# Altium schematic symbol library SamacSys.SchLib: 44 symbols
Pins are listed as number, name and electrical type; pins without a type are passive.

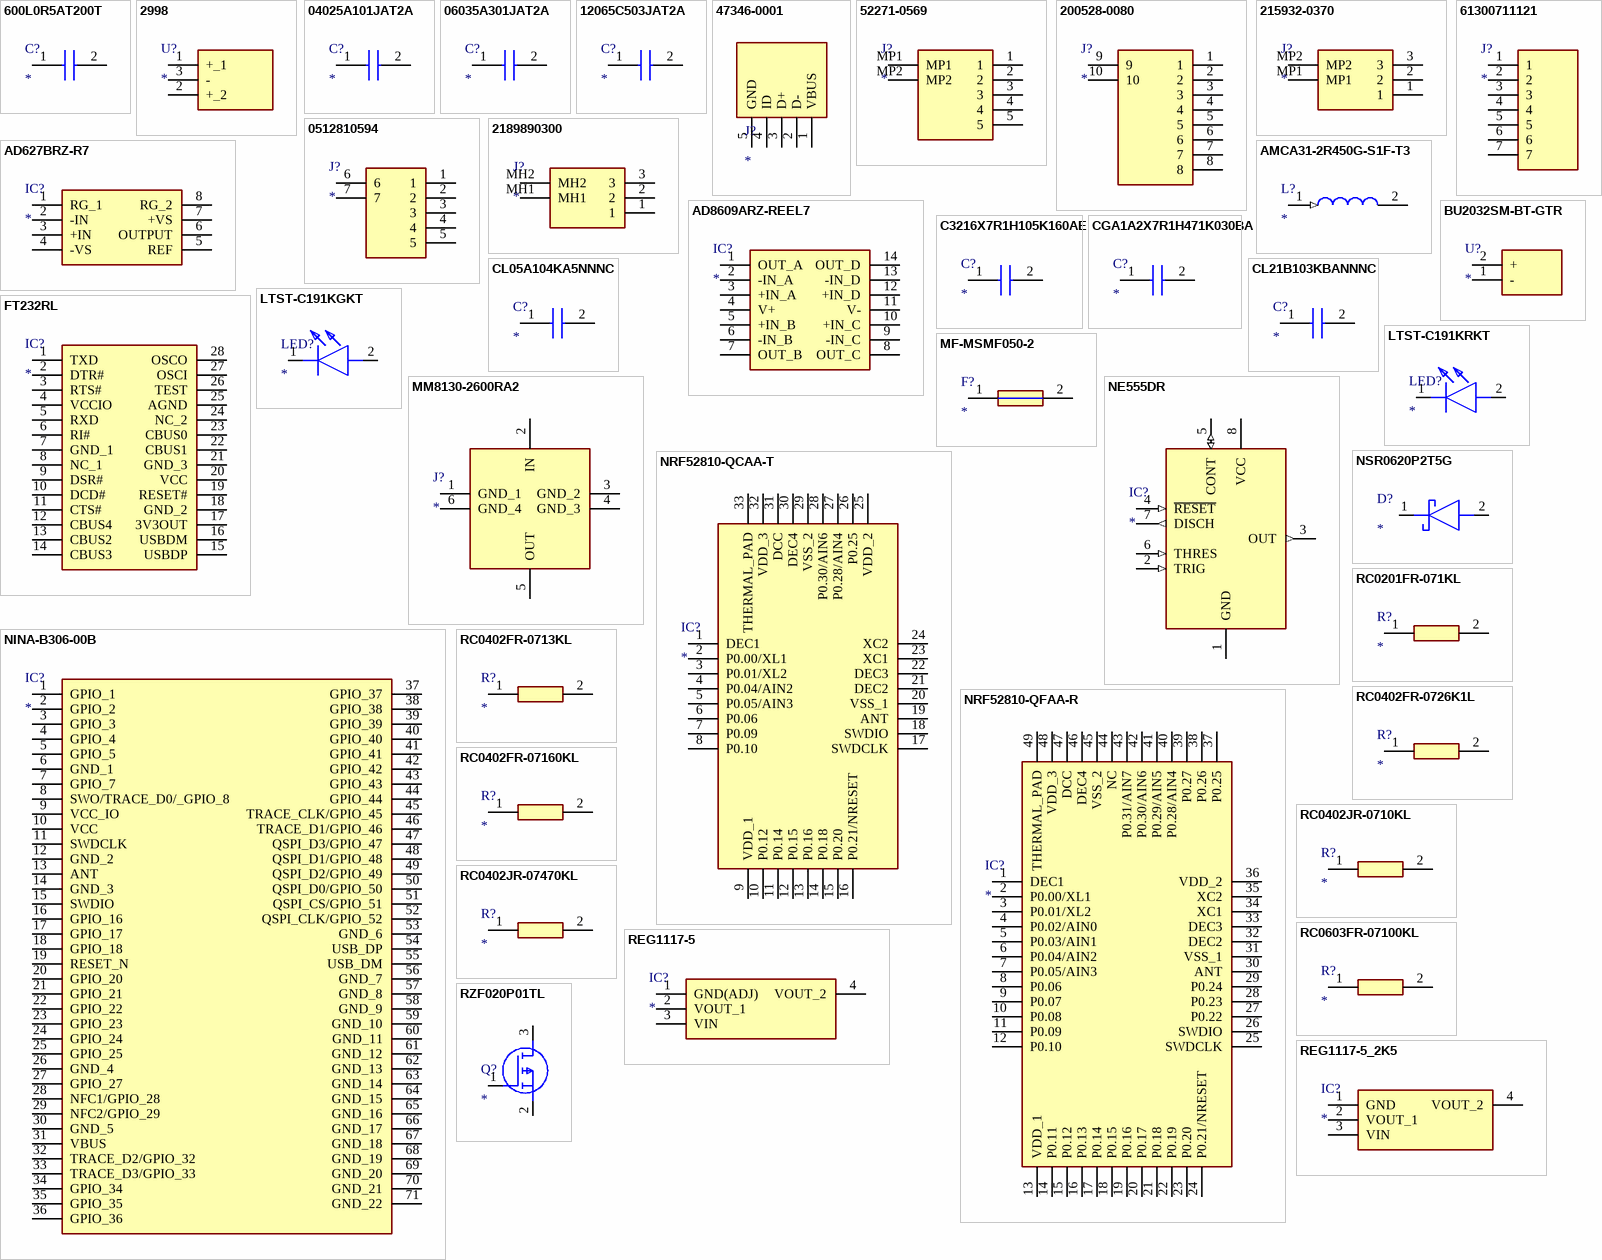
[diagram p0: symbols 600L0R5AT200T to RZF020P01TL]

## 600L0R5AT200T
designator C?
Capacitor; Manufacturer_Name: American Technical Ceramics (ATC); Manufacturer_Part_Number: 600L0R5AT200T; Datasheet Link: https://datasheets.kyocera-avx.com/600L.pdf; Height: 0.6mm
footprint CAPC1005X60N
pins: 1, 2

## 2998
designator U?
Undefined or Miscellaneous; Manufacturer_Name: Keystone Electronics; Manufacturer_Part_Number: 2998; Datasheet Link: https://www.keyelco.com/product-pdf.cfm?p=763; Height: 3.18mm; Mouser Part Number: 534-2998; Mouser Price/Stock: https://www.mouser.co.uk/ProductDetail/Keystone-Electronics/2998?qs=xAjc%252BIZFyb5TvOJRv3Vy6w%3D%3D; Arrow Part Number: 2998; Arrow Price/Stock: https://www.arrow.com/en/products/2998/keystone-electronics
footprint 2998
pins: 1 +_1, 2 +_2, 3 -

## 04025A101JAT2A
designator C?
Capacitor; Manufacturer_Name: AVX; Manufacturer_Part_Number: 04025A101JAT2A; Datasheet Link: http://www.mouser.com/catalog/supplier/library/pdf/AVXSurfaceMountCeramic.pdf; Height: 0.56mm; Mouser Part Number: 581-04025A101J; Mouser Price/Stock: https://www.mouser.co.uk/ProductDetail/AVX/04025A101JAT2A?qs=MeUoP7zHHrVUMjmeFYUrCw%3D%3D; Arrow Part Number: 04025A101JAT2A; Arrow Price/Stock: https://www.arrow.com/en/products/04025a101jat2a/avx
footprint CAPC1005X56N
pins: 1, 2

## 06035A301JAT2A
designator C?
Capacitor; Manufacturer_Name: AVX; Manufacturer_Part_Number: 06035A301JAT2A; Datasheet Link: https://componentsearchengine.com/Datasheets/1/06031A100FAT2A.pdf; Height: 0.9mm; Mouser Part Number: 581-06035A301J; Mouser Price/Stock: https://www.mouser.com/Search/Refine.aspx?Keyword=581-06035A301J; Arrow Part Number: 06035A301JAT2A; Arrow Price/Stock: https://www.arrow.com/en/products/06035a301jat2a/avx
footprint CAPC1608X90N
pins: 1, 2

## 12065C503JAT2A
designator C?
Capacitor; Manufacturer_Name: AVX; Manufacturer_Part_Number: 12065C503JAT2A; Mouser Part Number: 581-12065C503JAT2A; Mouser Price/Stock: https://www.mouser.co.uk/ProductDetail/AVX/12065C503JAT2A?qs=KpoduxKdAk0Ka0q%2FwvgHUg%3D%3D; Arrow Part Number: 12065C503JAT2A; Arrow Price/Stock: https://www.arrow.com/en/products/12065c503jat2a/avx
footprint CAPC3216X94N
pins: 1 C1, 2 C2

## 47346-0001
designator J?
Connector; Manufacturer_Name: Molex; Manufacturer_Part_Number: 47346-0001; Datasheet Link: http://www.molex.com/pdm_docs/sd/473460001_sd.pdf; Mouser Part Number: 538-47346-0001; Mouser Price/Stock: https://www.mouser.co.uk/ProductDetail/Molex/47346-0001?qs=c2CV6XM0DweJBWaSeyWeCw%3D%3D
footprint 47346-0001
pins: 1 VBUS, 2 D-, 3 D+, 4 ID, 5 GND

## 52271-0569
designator J?
Connector; Manufacturer_Name: Molex; Manufacturer_Part_Number: 52271-0569; Datasheet Link: https://www.molex.com/pdm_docs/sd/522710569_sd.pdf; Height: 4.65mm; Mouser Part Number: 538-52271-0569; Mouser Price/Stock: https://www.mouser.co.uk/ProductDetail/Molex/52271-0569?qs=vFIbPToLYxKjfGPEzV6m3w%3D%3D
footprint 522710569
pins: 1, 2, 3, 4, 5, MP1, MP2

## 200528-0080
designator J?
Connector; Manufacturer_Name: Molex; Manufacturer_Part_Number: 200528-0080; Datasheet Link: https://www.molex.com/webdocs/datasheets/pdf/en-us/2005280080_FFC_FPC_CONNECTORS.pdf; Height: 2mm; Mouser Part Number: 538-200528-0080; Mouser Price/Stock: https://www.mouser.co.uk/ProductDetail/Molex/200528-0080?qs=IvjI65BR3TV4eofCj4RUDA%3D%3D
footprint 2005290080
pins: 1, 2, 3, 4, 5, 6, 7, 8, 9, 10

## 215932-0370
designator J?
Connector; Manufacturer_Name: Molex; Manufacturer_Part_Number: 215932-0370; Description: MOLEX - 215932-0370 - Pin Header; Datasheet Link: https://www.molex.com/pdm_docs/sd/2159320370_sd.pdf; Height: 7.5mm; Mouser Part Number: 538-215932-0370; Mouser Price/Stock: https://www.mouser.co.uk/ProductDetail/Molex/215932-0370?qs=t7xnP681wgWm2CraYd21hQ%3D%3D
footprint 2159320370
pins: 1, 2, 3, MP1, MP2

## 0512810594
designator J?
Connector; Manufacturer_Name: Molex; Manufacturer_Part_Number: 0512810594; Datasheet Link: http://www.molex.com/webdocs/datasheets/pdf/en-us//0512810594_FFC_FPC_CONNECTORS.pdf; Height: 1.2mm; Mouser Part Number: N/A; Mouser Price/Stock: https://www.mouser.co.uk/ProductDetail/Molex/0512810594?qs=PBcRNPEHKsrInM8nNsUhrQ%3D%3D; Arrow Part Number: 0512810594; Arrow Price/Stock: https://www.arrow.com/en/products/0512810594/molex
footprint 0512810594
pins: 1, 2, 3, 4, 5, 6, 7

## 2189890300
designator J?
Connector; Manufacturer_Name: Molex; Manufacturer_Part_Number: 2189890300; Datasheet Link: https://www.molex.com/pdm_docs/sd/2189890300_sd.pdf; Height: 6.12mm
footprint 2189890300
pins: 1, 2, 3, MH1, MH2

## 61300711121
designator J?
Connector; Manufacturer_Name: Wurth Elektronik; Manufacturer_Part_Number: 61300711121; Datasheet Link: http://katalog.we-online.de/em/datasheet/6130xx11121.pdf; Height: 8.69mm; Mouser Part Number: 710-61300711121; Mouser Price/Stock: https://www.mouser.co.uk/ProductDetail/Wurth-Elektronik/61300711121?qs=PhR8RmCirEa4Kw6rJ18PJA%3D%3D
footprint HDRV7W64P0X254_1X7_1778X254X869P
pins: 1, 2, 3, 4, 5, 6, 7

## AD627BRZ-R7
designator IC?
Integrated Circuit; Manufacturer_Name: Analog Devices; Manufacturer_Part_Number: AD627BRZ-R7; Datasheet Link: https://www.analog.com/media/en/technical-documentation/data-sheets/AD627.pdf; Height: 1.75mm; Mouser Part Number: 584-AD627BRZ-R7; Mouser Price/Stock: https://www.mouser.co.uk/ProductDetail/Analog-Devices/AD627BRZ-R7?qs=NmRFExCfTkFC5ODcpQAx7A%3D%3D; Arrow Part Number: AD627BRZ-R7; Arrow Price/Stock: https://www.arrow.com/en/products/ad627brz-r7/analog-devices
footprint SOIC127P600X175-8N
pins: 1 RG_1, 2 -IN, 3 +IN, 4 -VS, 5 REF, 6 OUTPUT, 7 +VS, 8 RG_2

## AD8609ARZ-REEL7
designator IC?
Integrated Circuit; Manufacturer_Name: Analog Devices; Manufacturer_Part_Number: AD8609ARZ-REEL7; Datasheet Link: https://www.analog.com/media/en/technical-documentation/data-sheets/AD8603_8607_8609.pdf; Height: 1.75mm; Mouser Part Number: 584-AD8609ARZ-R7; Mouser Price/Stock: https://www.mouser.com/Search/Refine.aspx?Keyword=584-AD8609ARZ-R7; Arrow Part Number: AD8609ARZ-REEL7; Arrow Price/Stock: https://www.arrow.com/en/products/ad8609arz-reel7/analog-devices
footprint SOIC127P600X175-14N
pins: 1 OUT_A, 2 -IN_A, 3 +IN_A, 4 V+, 5 +IN_B, 6 -IN_B, 7 OUT_B, 8 OUT_C, 9 -IN_C, 10 +IN_C, 11 V-, 12 +IN_D, 13 -IN_D, 14 OUT_D

## AMCA31-2R450G-S1F-T3
designator L?
Inductor; Manufacturer_Name: ABRACON; Manufacturer_Part_Number: AMCA31-2R450G-S1F-T3; Datasheet Link: https://abracon.com/chip-antenna/AMCA31-2R450G-S1F-T.pdf; Height: 1.4mm; Mouser Part Number: 815-CA312R450GS1FT3; Mouser Price/Stock: https://www.mouser.co.uk/ProductDetail/ABRACON/AMCA31-2R450G-S1F-T3?qs=AAveGqk956GLuOddQEK40Q%3D%3D; Arrow Part Number: AMCA31-2R450G-S1F-T3; Arrow Price/Stock: https://www.arrow.com/en/products/amca31-2r450g-s1f-t3/abracon?region=nac
footprint ANTC3216X140N
pins: 1 FEED (in), 2 NC

## BU2032SM-BT-GTR
designator U?
Undefined or Miscellaneous; Manufacturer_Name: Memory Protection Devices; Manufacturer_Part_Number: BU2032SM-BT-GTR; Datasheet Link: http://www.memoryprotectiondevices.com/datasheets/BU2032SM-BT-GTR-datasheet.pdf; Height: 4.8mm
footprint BU2032SMBTGTR
pins: 1 -, 2 +

## C3216X7R1H105K160AE
designator C?
Capacitor; Manufacturer_Name: TDK; Manufacturer_Part_Number: C3216X7R1H105K160AE; Datasheet Link: https://product.tdk.com/info/en/catalog/datasheets/mlcc_commercial_midvoltage_en.pdf; Height: 1.8mm; Mouser Part Number: 810-C3216X7R1H105KST; Mouser Price/Stock: https://www.mouser.co.uk/ProductDetail/TDK/C3216X7R1H105K160AE?qs=LcTL%2F5vFEzHWgMW0Em18fQ%3D%3D; Arrow Part Number: C3216X7R1H105K160AE; Arrow Price/Stock: https://www.arrow.com/en/products/c3216x7r1h105k160ae/tdk?region=nac
footprint CAPC3216X180N
pins: 1, 2

## CGA1A2X7R1H471K030BA
designator C?
Capacitor; Manufacturer_Name: TDK; Manufacturer_Part_Number: CGA1A2X7R1H471K030BA; Datasheet Link: https://product.tdk.com/system/files/dam/doc/product/capacitor/ceramic/mlcc/catalog/mlcc_automotive_general_en.pdf; Height: 0.9mm; Mouser Part Number: 810-CGA1A2X7R1H471KA; Mouser Price/Stock: https://www.mouser.co.uk/ProductDetail/TDK/CGA1A2X7R1H471K030BA?qs=2FIyTMJ0hNm9jc1ZvmiYZg%3D%3D; Arrow Part Number: CGA1A2X7R1H471K030BA; Arrow Price/Stock: https://www.arrow.com/en/products/cga1a2x7r1h471k030ba/tdk?region=europe
footprint CAPC1608X90N
pins: 1, 2

## CL05A104KA5NNNC
designator C?
Capacitor; Manufacturer_Name: SAMSUNG; Manufacturer_Part_Number: CL05A104KA5NNNC; Datasheet Link: https://datasheet.datasheetarchive.com/originals/distributors/Datasheets-DGA10/2409293.pdf; Height: 0.55mm; Mouser Part Number: 187-CL05A104KA5NNNC; Mouser Price/Stock: https://www.mouser.co.uk/ProductDetail/Samsung-Electro-Mechanics/CL05A104KA5NNNC?qs=X6jEic%2FHinDlkqz9npJeOg%3D%3D; Arrow Part Number: CL05A104KA5NNNC; Arrow Price/Stock: https://www.arrow.com/en/products/cl05a104ka5nnnc/samsung-electro-mechanics?region=europe
footprint CAPC1005X55N
pins: 1, 2

## CL21B103KBANNNC
designator C?
Capacitor; Manufacturer_Name: SAMSUNG; Manufacturer_Part_Number: CL21B103KBANNNC; Datasheet Link: https://datasheet.datasheetarchive.com/originals/distributors/Datasheets_SAMA/97c54fb7f716f6f5bd35dfc2c9b17795.pdf; Height: 0.75mm; Mouser Part Number: 187-CL21B103KBANNNC; Mouser Price/Stock: https://www.mouser.co.uk/ProductDetail/Samsung-Electro-Mechanics/CL21B103KBANNNC?qs=349EhDEZ59oTK9iJ%2FqCMuw%3D%3D; Arrow Part Number: CL21B103KBANNNC; Arrow Price/Stock: https://www.arrow.com/en/products/cl21b103kbannnc/samsung-electro-mechanics?region=europe
footprint CAPC2012X75N
pins: 1, 2

## FT232RL
designator IC?
Integrated Circuit; Manufacturer_Name: FTDI Chip; Manufacturer_Part_Number: FT232RL; Datasheet Link: http://www.ftdichip.com/Support/Documents/DataSheets/ICs/DS_FT232R.pdf; Height: 2mm; Arrow Part Number: FT232RL; Arrow Price/Stock: https://www.arrow.com/en/products/ft232rl/ftdi-chip?region=nac
footprint SOP65P778X200-28N
pins: 1 TXD, 2 DTR#, 3 RTS#, 4 VCCIO, 5 RXD, 6 RI#, 7 GND_1, 8 NC_1, 9 DSR#, 10 DCD#, 11 CTS#, 12 CBUS4, 13 CBUS2, 14 CBUS3, 15 USBDP, 16 USBDM, 17 3V3OUT, 18 GND_2, 19 RESET#, 20 VCC, 21 GND_3, 22 CBUS1, 23 CBUS0, 24 NC_2, 25 AGND, 26 TEST, 27 OSCI, 28 OSCO

## LTST-C191KGKT
designator LED?
LED; Manufacturer_Name: Lite-On; Manufacturer_Part_Number: LTST-C191KGKT; Datasheet Link: http://www.mouser.com/ds/2/239/S_110_LTST-C191KGKT-369560.pdf; Height: 0.55mm; Mouser Part Number: 859-LTST-C191KGKT; Mouser Price/Stock: https://www.mouser.co.uk/ProductDetail/Lite-On/LTST-C191KGKT?qs=xSPZu9B1aMCRQ5ACasEYAg%3D%3D; Arrow Part Number: LTST-C191KGKT; Arrow Price/Stock: https://www.arrow.com/en/products/ltst-c191kgkt/lite-on-technology?region=nac
footprint LEDC1608X55N
pins: 1 K, 2 A

## LTST-C191KRKT
designator LED?
LED; Manufacturer_Name: Lite-On; Manufacturer_Part_Number: LTST-C191KRKT; Datasheet Link: http://www.mouser.com/ds/2/239/S_110_LTST-C191KRKT-539838.pdf; Height: 0.55mm; Mouser Part Number: 859-LTST-C191KRKT; Mouser Price/Stock: https://www.mouser.co.uk/ProductDetail/Lite-On/LTST-C191KRKT?qs=BAIUz4Y8PJBLfOhzue0q%252BA%3D%3D; Arrow Part Number: LTST-C191KRKT; Arrow Price/Stock: https://www.arrow.com/en/products/ltst-c191krkt/lite-on-technology?region=nac
footprint LEDC1608X55N
pins: 1 K, 2 A

## MF-MSMF050-2
designator F?
Fuse; Manufacturer_Name: Bourns; Manufacturer_Part_Number: MF-MSMF050-2; Datasheet Link: https://www.bourns.com/pdfs/mfmsmf.pdf; Mouser Part Number: 652-MF-MSMF050-2; Mouser Price/Stock: https://www.mouser.co.uk/ProductDetail/Bourns/MF-MSMF050-2?qs=t3shhpq1i1DZ7OBD5kLNoA%3D%3D; Arrow Part Number: MF-MSMF050-2; Arrow Price/Stock: https://www.arrow.com/en/products/mf-msmf050-2/bourns?region=europe
footprint FUSC4632X85N
pins: 1, 2

## MM8130-2600RA2
designator J?
Connector; Manufacturer_Name: Murata Electronics; Manufacturer_Part_Number: MM8130-2600RA2; Datasheet Link: https://datasheet.datasheetarchive.com/originals/distributors/Datasheets_SAMA/589e44b7d5a6bf6f2f6a9b110e94adf4.pdf; Height: 1.5mm; Mouser Part Number: 81-MM8130-2600RA2; Mouser Price/Stock: https://www.mouser.co.uk/ProductDetail/Murata-Electronics/MM8130-2600RA2?qs=pwh76yelNxAj%2FSz0%2FLo03A%3D%3D; Arrow Part Number: MM8130-2600RA2; Arrow Price/Stock: https://www.arrow.com/en/products/mm8130-2600ra2/murata-manufacturing?region=nac
footprint MM81302600RA2
pins: 1 GND_1, 2 IN, 3 GND_2, 4 GND_3, 5 OUT, 6 GND_4

## NE555DR
designator IC?
Integrated Circuit; Manufacturer_Name: Texas Instruments; Manufacturer_Part_Number: NE555DR; Datasheet Link: http://www.ti.com/lit/ds/symlink/ne555.pdf; Height: 1.75mm; Mouser Part Number: 595-NE555DR; Mouser Price/Stock: https://www.mouser.com/Search/Refine.aspx?Keyword=595-NE555DR; RS Part Number: 1218414; RS Price/Stock: http://uk.rs-online.com/web/p/products/1218414
footprint SOIC127P600X175-8N
pins: 1 GND (power), 2 TRIG (in), 3 OUT (out), 4 ~{RESET} (in), 5 CONT (io), 6 THRES (in), 7 DISCH (out), 8 VCC (power)

## NINA-B306-00B
designator IC?
Integrated Circuit; Manufacturer_Name: U-Blox; Manufacturer_Part_Number: NINA-B306-00B; Datasheet Link: https://www.u-blox.com/en/docs/UBX-17052099; Height: 2.63mm; Mouser Part Number: 377-NINA-B306-00B; Mouser Price/Stock: https://www.mouser.co.uk/ProductDetail/u-blox/NINA-B306-00B?qs=zW32dvEIR3uPiIbgcFbQtQ%3D%3D
footprint NINAB30600B
pins: 1 GPIO_1, 2 GPIO_2, 3 GPIO_3, 4 GPIO_4, 5 GPIO_5, 6 GND_1, 7 GPIO_7, 8 SWO/TRACE_D0/_GPIO_8, 9 VCC_IO, 10 VCC, 11 SWDCLK, 12 GND_2, 13 ANT, 14 GND_3, 15 SWDIO, 16 GPIO_16, 17 GPIO_17, 18 GPIO_18, 19 RESET_N, 20 GPIO_20, 21 GPIO_21, 22 GPIO_22, 23 GPIO_23, 24 GPIO_24, 25 GPIO_25, 26 GND_4, 27 GPIO_27, 28 NFC1/GPIO_28, 29 NFC2/GPIO_29, 30 GND_5, 31 VBUS, 32 TRACE_D2/GPIO_32, 33 TRACE_D3/GPIO_33, 34 GPIO_34, 35 GPIO_35, 36 GPIO_36, 37 GPIO_37, 38 GPIO_38, 39 GPIO_39, 40 GPIO_40, 41 GPIO_41, 42 GPIO_42, 43 GPIO_43, 44 GPIO_44, 45 TRACE_CLK/GPIO_45, 46 TRACE_D1/GPIO_46, 47 QSPI_D3/GPIO_47, 48 QSPI_D1/GPIO_48, 49 QSPI_D2/GPIO_49, 50 QSPI_D0/GPIO_50, 51 QSPI_CS/GPIO_51, 52 QSPI_CLK/GPIO_52, 53 GND_6, 54 USB_DP, 55 USB_DM, 56 GND_7, 57 GND_8, 58 GND_9, 59 GND_10, 60 GND_11, 61 GND_12, 62 GND_13, 63 GND_14, 64 GND_15, 65 GND_16, 66 GND_17, 67 GND_18, 68 GND_19, 69 GND_20, 70 GND_21, 71 GND_22

## NRF52810-QCAA-T
designator IC?
Integrated Circuit; Manufacturer_Name: Nordic Semiconductor; Manufacturer_Part_Number: NRF52810-QCAA-T; Datasheet Link: https://componentsearchengine.com/Datasheets/1/nRF52810-QCAA-T.pdf; Height: 0.8mm; Mouser Part Number: 949-NRF52810-QCAA-T; Mouser Price/Stock: https://www.mouser.co.uk/ProductDetail/Nordic-Semiconductor/nRF52810-QCAA-T?qs=5aG0NVq1C4ykfpvypn%2FnAA%3D%3D; Arrow Part Number: NRF52810-QCAA-T; Arrow Price/Stock: https://www.arrow.com/en/products/nrf52810-qcaa-t/nordic-semiconductor?region=nac
footprint QFN50P500X500X80-33N
pins: 1 DEC1, 2 P0.00/XL1, 3 P0.01/XL2, 4 P0.04/AIN2, 5 P0.05/AIN3, 6 P0.06, 7 P0.09, 8 P0.10, 9 VDD_1, 10 P0.12, 11 P0.14, 12 P0.15, 13 P0.16, 14 P0.18, 15 P0.20, 16 P0.21/NRESET, 17 SWDCLK, 18 SWDIO, 19 ANT, 20 VSS_1, 21 DEC2, 22 DEC3, 23 XC1, 24 XC2, 25 VDD_2, 26 P0.25, 27 P0.28/AIN4, 28 P0.30/AIN6, 29 VSS_2, 30 DEC4, 31 DCC, 32 VDD_3, 33 THERMAL_PAD

## NRF52810-QFAA-R
designator IC?
Integrated Circuit; Manufacturer_Name: Nordic Semiconductor; Manufacturer_Part_Number: NRF52810-QFAA-R; Datasheet Link: http://infocenter.nordicsemi.com/pdf/nRF52810_PS_v1.0.pdf; Height: 0.9mm; Mouser Part Number: 949-NRF52810-QFAA-R; Mouser Price/Stock: https://www.mouser.co.uk/ProductDetail/Nordic-Semiconductor/NRF52810-QFAA-R?qs=gt1LBUVyoHmUcm9gtTuf%252BA%3D%3D; Arrow Part Number: NRF52810-QFAA-R; Arrow Price/Stock: https://www.arrow.com/en/products/nrf52810-qfaa-r/nordic-semiconductor?region=nac
footprint QFN40P600X600X90-49N-D
pins: 1 DEC1, 2 P0.00/XL1, 3 P0.01/XL2, 4 P0.02/AIN0, 5 P0.03/AIN1, 6 P0.04/AIN2, 7 P0.05/AIN3, 8 P0.06, 9 P0.07, 10 P0.08, 11 P0.09, 12 P0.10, 13 VDD_1, 14 P0.11, 15 P0.12, 16 P0.13, 17 P0.14, 18 P0.15, 19 P0.16, 20 P0.17, 21 P0.18, 22 P0.19, 23 P0.20, 24 P0.21/NRESET, 25 SWDCLK, 26 SWDIO, 27 P0.22, 28 P0.23, 29 P0.24, 30 ANT, 31 VSS_1, 32 DEC2, 33 DEC3, 34 XC1, 35 XC2, 36 VDD_2, 37 P0.25, 38 P0.26, 39 P0.27, 40 P0.28/AIN4, 41 P0.29/AIN5, 42 P0.30/AIN6, 43 P0.31/AIN7, 44 NC, 45 VSS_2, 46 DEC4, 47 DCC, 48 VDD_3, 49 THERMAL_PAD

## NSR0620P2T5G
designator D?
Schottky Diode; Manufacturer_Name: onsemi; Manufacturer_Part_Number: NSR0620P2T5G; Datasheet Link: https://www.onsemi.com/pub/Collateral/NSR0620P2-D.PDF; Height: 0.4mm; Mouser Part Number: 863-NSR0620P2T5G; Mouser Price/Stock: https://www.mouser.co.uk/ProductDetail/onsemi/NSR0620P2T5G?qs=tauDy9ytPRuGG8VMIU8l1w%3D%3D; Arrow Part Number: NSR0620P2T5G; Arrow Price/Stock: https://www.arrow.com/en/products/nsr0620p2t5g/on-semiconductor?region=nac
footprint SODFL1006X40N
pins: 1 K, 2 A

## RC0201FR-071KL
designator R?
Resistor; Manufacturer_Name: KEMET; Manufacturer_Part_Number: RC0201FR-071KL; Datasheet Link: http://www.yageo.com/documents/recent/PYu-RC0201_51_RoHS_L_8.pdf; Height: 0.26mm; Mouser Part Number: 603-RC0201FR-071KL; Mouser Price/Stock: https://www.mouser.co.uk/ProductDetail/YAGEO/RC0201FR-071KL?qs=FLc6udek5PTmPyT6HHV8wg%3D%3D
footprint RESC0603X26N
pins: 1, 2

## RC0402FR-0713KL
designator R?
Resistor; Manufacturer_Name: KEMET; Manufacturer_Part_Number: RC0402FR-0713KL; Datasheet Link: http://www.yageo.com/documents/recent/PYu-RC0402_51_RoHS_L_6_r.pdf; Height: 0.4mm; Arrow Part Number: RC0402FR-0713KL; Arrow Price/Stock: https://www.arrow.com/en/products/rc0402fr-0713kl/yageo
footprint RESC1005X40N
pins: 1, 2

## RC0402FR-0726K1L
designator R?
Resistor; Manufacturer_Name: KEMET; Manufacturer_Part_Number: RC0402FR-0726K1L; Datasheet Link: http://www.yageo.com/documents/recent/PYu-RC0402_51_RoHS_L_6_r.pdf; Height: 0.4mm; Mouser Part Number: 603-RC0402FR-0726K1L; Mouser Price/Stock: https://www.mouser.co.uk/ProductDetail/Yageo/RC0402FR-0726K1L?qs=UOUeRUa%252B8WmXNUY%252B%252Bz4L%252Bg%3D%3D; Arrow Part Number: RC0402FR-0726K1L; Arrow Price/Stock: https://www.arrow.com/en/products/rc0402fr-0726k1l/yageo
footprint RESC1005X40N
pins: 1, 2

## RC0402FR-07160KL
designator R?
Resistor; Manufacturer_Name: KEMET; Manufacturer_Part_Number: RC0402FR-07160KL; Datasheet Link: http://www.yageo.com/documents/recent/PYu-RC0402_51_RoHS_L_6_r.pdf; Height: 0.4mm; Mouser Part Number: 603-RC0402FR-07160KL; Mouser Price/Stock: https://www.mouser.co.uk/ProductDetail/Yageo/RC0402FR-07160KL?qs=UOUeRUa%252B8WnrOUuDcgqW7w%3D%3D; Arrow Part Number: RC0402FR-07160KL; Arrow Price/Stock: https://www.arrow.com/en/products/rc0402fr-07160kl/yageo
footprint RESC1005X40N
pins: 1, 2

## RC0402JR-0710KL
designator R?
Resistor; Manufacturer_Name: KEMET; Manufacturer_Part_Number: RC0402JR-0710KL; Datasheet Link: https://datasheet.datasheetarchive.com/originals/distributors/Datasheets_SAMA/902f9e387b938f871d31120f5fc1d65e.pdf; Height: 0.4mm; Mouser Part Number: 603-RC0402JR-0710KL; Mouser Price/Stock: https://www.mouser.co.uk/ProductDetail/YAGEO/RC0402JR-0710KL?qs=V1yeUXFNrkk4BhFptVo0Rw%3D%3D
footprint RESC1005X40N
pins: 1, 2

## RC0402JR-07470KL
designator R?
Resistor; Manufacturer_Name: KEMET; Manufacturer_Part_Number: RC0402JR-07470KL; Datasheet Link: https://datasheet.datasheetarchive.com/originals/distributors/Datasheets_SAMA/902f9e387b938f871d31120f5fc1d65e.pdf; Height: 0.4mm; Mouser Part Number: 603-RC0402JR-07470KL; Mouser Price/Stock: https://www.mouser.co.uk/ProductDetail/Yageo/RC0402JR-07470KL?qs=uM1JSSdPjODkyS3O7Vrt5Q%3D%3D; Arrow Part Number: RC0402JR-07470KL; Arrow Price/Stock: https://www.arrow.com/en/products/rc0402jr-07470kl/yageo
footprint RESC1005X40N
pins: 1, 2

## RC0603FR-07100KL
designator R?
Resistor; Manufacturer_Name: KEMET; Manufacturer_Part_Number: RC0603FR-07100KL; Datasheet Link: http://www.yageo.com/documents/recent/PYu-RC0603_51_RoHS_L_v5.pdf; Height: 0.55mm; Mouser Part Number: 603-RC0603FR-07100KL; Mouser Price/Stock: https://www.mouser.co.uk/ProductDetail/YAGEO/RC0603FR-07100KL?qs=e1ok2LiJcmaihem8Va5%2Fsw%3D%3D; Arrow Part Number: RC0603FR-07100KL; Arrow Price/Stock: https://www.arrow.com/en/products/rc0603fr-07100kl/yageo?region=europe
footprint RESC1608X55N
pins: 1, 2

## REG1117-5
designator IC?
Integrated Circuit; Manufacturer_Name: Texas Instruments; Manufacturer_Part_Number: REG1117-5; Datasheet Link: http://www.ti.com/lit/gpn/reg1117; Height: 1.8mm; Mouser Part Number: 595-REG1117-5; Mouser Price/Stock: https://www.mouser.co.uk/ProductDetail/Texas-Instruments/REG1117-5?qs=sSOk4GDDv7yzZiRJiNDqvA%3D%3D; Arrow Part Number: REG1117-5; Arrow Price/Stock: https://www.arrow.com/en/products/reg1117-5/texas-instruments?region=nac
footprint SOT230P700X180-4N
pins: 1 GND(ADJ), 2 VOUT_1, 3 VIN, 4 VOUT_2

## REG1117-5_2K5
designator IC?
Integrated Circuit; Manufacturer_Name: Texas Instruments; Manufacturer_Part_Number: REG1117-5/2K5; Datasheet Link: http://www.ti.com/lit/gpn/reg1117; Height: 1.8mm; Mouser Part Number: 595-REG1117-5/2K5; Mouser Price/Stock: https://www.mouser.co.uk/ProductDetail/Texas-Instruments/REG1117-5-2K5?qs=sSOk4GDDv7wcI3BwEj6hCg%3D%3D; Arrow Part Number: REG1117-5/2K5; Arrow Price/Stock: https://www.arrow.com/en/products/reg1117-52k5/texas-instruments?region=nac
footprint SOT230P700X180-4N
pins: 1 GND, 2 VOUT_1, 3 VIN, 4 VOUT_2

## RZF020P01TL
designator Q?
MOSFET (P-Channel); Manufacturer_Name: ROHM Semiconductor; Manufacturer_Part_Number: RZF020P01TL; Datasheet Link: https://www.rohm.com/products/mosfets/small-signal/single-pch/rzf020p01-product#productDetail; Height: 0.85mm; Mouser Part Number: 755-RZF020P01TL; Mouser Price/Stock: https://www.mouser.co.uk/ProductDetail/ROHM-Semiconductor/RZF020P01TL?qs=LU7oW20kJpPBZVcxqiZlgQ%3D%3D
footprint RZF020P01TL
pins: 1 G, 2 S, 3 D

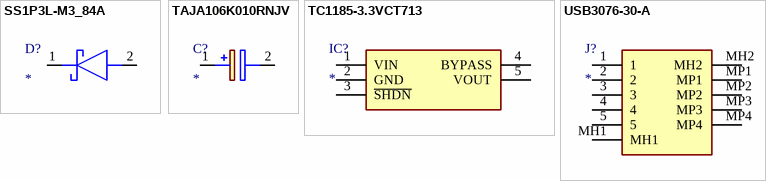
[diagram p1: symbols SS1P3L-M3_84A to USB3076-30-A]

## SS1P3L-M3_84A
designator D?
Schottky Diode; Manufacturer_Name: Vishay; Manufacturer_Part_Number: SS1P3L-M3/84A; Datasheet Link: https://ms.componentsearchengine.com/Datasheets/2/SS1P3L-M3_84A.pdf; Height: 1.15mm; Mouser Part Number: 625-SS1P3L-M3/84A; Mouser Price/Stock: https://www.mouser.co.uk/ProductDetail/Vishay-General-Semiconductor/SS1P3L-M3-84A?qs=HSPD0Bff7iZtYrbeCvAZDQ%3D%3D; Arrow Part Number: SS1P3L-M3/84A; Arrow Price/Stock: https://www.arrow.com/en/products/ss1p3l-m384a/vishay?region=nac
footprint SS1P3LM384A
pins: 1 K, 2 A

## TAJA106K010RNJV
designator C?
Capacitor Polarised; Manufacturer_Name: AVX; Manufacturer_Part_Number: TAJA106K010RNJV; Datasheet Link: http://www.farnell.com/datasheets/1680476.pdf; Height: 1.8mm; Mouser Part Number: 581-TAJA106K010RNJV; Mouser Price/Stock: https://www.mouser.co.uk/ProductDetail/AVX/TAJA106K010RNJV?qs=q%252BHV0zBR8MhA8vzi7uQCHA%3D%3D; Arrow Part Number: TAJA106K010RNJV; Arrow Price/Stock: https://www.arrow.com/en/products/taja106k010rnjv/avx
footprint CAPPM3216X180N
pins: 1 +, 2 -

## TC1185-3.3VCT713
designator IC?
Integrated Circuit; Manufacturer_Name: Microchip; Manufacturer_Part_Number: TC1185-3.3VCT713; Datasheet Link: https://datasheet.datasheetarchive.com/originals/distributors/SFDatasheet-4/sf-00090228.pdf; Height: 1.45mm; Mouser Part Number: 579-TC1185-3.3VCT713; Mouser Price/Stock: https://www.mouser.co.uk/ProductDetail/Microchip-Technology-Atmel/TC1185-3.3VCT713?qs=L7mmR9vWTYjv9mdvONI4tQ%3D%3D; Arrow Part Number: TC1185-3.3VCT713; Arrow Price/Stock: https://www.arrow.com/en/products/tc1185-3.3vct713/microchip-technology?region=nac
footprint SOT95P270X145-5N
pins: 1 VIN, 2 GND, 3 ~{SHDN}, 4 BYPASS, 5 VOUT

## USB3076-30-A
designator J?
Connector; Manufacturer_Name: GCT (GLOBAL CONNECTOR TECHNOLOGY); Manufacturer_Part_Number: USB3076-30-A; Datasheet Link: https://gct.co/connector/usb3076; Height: 2.86mm; Mouser Part Number: 640-USB3076-30-A; Mouser Price/Stock: https://www.mouser.co.uk/ProductDetail/GCT/USB3076-30-A?qs=KUoIvG%2F9IlZs3NcnVJVajg%3D%3D
footprint USB307630A
pins: 1, 2, 3, 4, 5, MH1, MH2, MP1, MP2, MP3, MP4